# Altium schematic symbol library CPU.SchLib: 3 symbols
Pins are listed as number, name and electrical type; pins without a type are passive.

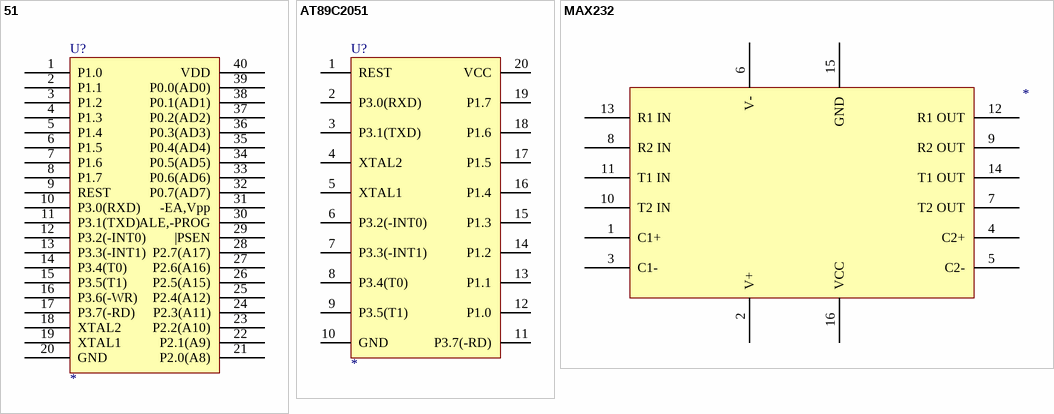
[diagram p0: symbols 51 to MAX232]

## 51
designator U?
footprint DIP40
footprint DIP-40
pins: 1 P1.0, 2 P1.1, 3 P1.2, 4 P1.3, 5 P1.4, 6 P1.5, 7 P1.6, 8 P1.7, 9 REST, 10 P3.0(RXD), 11 P3.1(TXD), 12 P3.2(-INT0), 13 P3.3(-INT1), 14 P3.4(T0), 15 P3.5(T1), 16 P3.6(-WR), 17 P3.7(-RD), 18 XTAL2, 19 XTAL1, 20 GND, 21 P2.0(A8), 22 P2.1(A9), 23 P2.2(A10), 24 P2.3(A11), 25 P2.4(A12), 26 P2.5(A15), 27 P2.6(A16), 28 P2.7(A17), 29 |PSEN, 30 ALE,-PROG, 31 -EA,Vpp, 32 P0.7(AD7), 33 P0.6(AD6), 34 P0.5(AD5), 35 P0.4(AD4), 36 P0.3(AD3), 37 P0.2(AD2), 38 P0.1(AD1), 39 P0.0(AD0), 40 VDD

## AT89C2051
designator U?
footprint DIP20
footprint DIP-20
pins: 1 REST, 2 P3.0(RXD), 3 P3.1(TXD), 4 XTAL2, 5 XTAL1, 6 P3.2(-INT0), 7 P3.3(-INT1), 8 P3.4(T0), 9 P3.5(T1), 10 GND, 11 P3.7(-RD), 12 P1.0, 13 P1.1, 14 P1.2, 15 P1.3, 16 P1.4, 17 P1.5, 18 P1.6, 19 P1.7, 20 VCC

## MAX232
designator ?
footprint DIP-16
pins: 1 C1+, 2 V+, 3 C1-, 4 C2+, 5 C2-, 6 V-, 7 T2 OUT, 8 R2 IN, 9 R2 OUT, 10 T2 IN, 11 T1 IN, 12 R1 OUT, 13 R1 IN, 14 T1 OUT, 15 GND, 16 VCC